# EAGLE library part LED_TACTILE_BUTTON (library SparkFun-LED_Tactile_Button)
LED Tactile Button Device for SparkFun Electronics' LED Tactile Button. In part derived from BOB-10467 - LED Tactile Button Breakout. Released under the Creative Commons Attribution Share-Alike 3.0 License http://creativecommons.org/licenses/by-sa/3.0 COM-10439 - White COM-10440 - Green COM-10441 - Orange COM-10442 - Red COM-10443 - Blue
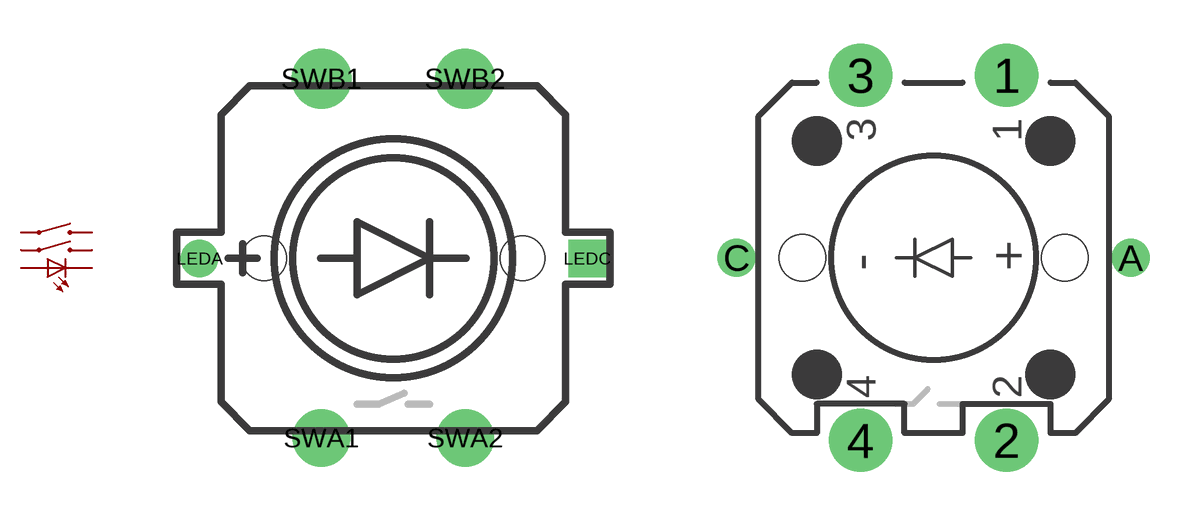
[diagram p0: symbol with the pads of LED_TACTILE_BUTTON; footprints LED_TACTILE_BUTTON, LED_TACTILE_BUTTON_SFE]

Designator prefix LSW

## LED_TACTILE_BUTTON  [LED_TACTILE_BUTTON]
LEDA  LEDA  pas
LEDC  LEDC  pas
SWA1  SWA1  pas
SWA2  SWA2  pas
SWB1  SWB1  pas
SWB2  SWB2  pas

## LED_TACTILE_BUTTONSFE  [LED_TACTILE_BUTTON_SFE]
1  SWB2  pas
2  SWA2  pas
3  SWB1  pas
4  SWA1  pas
A  LEDA  pas
C  LEDC  pas

## Footprint LED_TACTILE_BUTTON (pad centres in mm)
LED Tactile Button Package for SparkFun Electronics' LED Tactile Button.
drill 0.8: LEDA -6.75,0
drill 0.8 square: LEDC 6.75,0
drill 1.2 pad 2: SWA1 -2.5,-6.25; SWA2 2.5,-6.25
drill 1.2 pad 2.1: SWB1 -2.5,6.25; SWB2 2.5,6.25
hole 1.55 at -4.5,0
hole 1.55 at 4.5,0

## Footprint LED_TACTILE_BUTTON_SFE (pad centres in mm)
LED Tactile Button Package for SparkFun Electronics' LED Tactile Button. Derived from BOB-10467 - LED Tactile Button Breakout. Released under the Creative Commons Attribution Share-Alike 3.0 License http://creativecommons.org/licenses/by-sa/3.0
drill 1.2 pad 2.159: 1 2.5,6.25; 2 2.5,-6.25; 3 -2.5,6.25; 4 -2.5,-6.25
drill 0.8: A 6.75,0; C -6.75,0
hole 1.6 at 4.5,0
hole 1.6 at -4.5,0